# EAGLE library part TAS5548 (library BW-Active)
8-channel I2S/PWM Digital Audio Processor
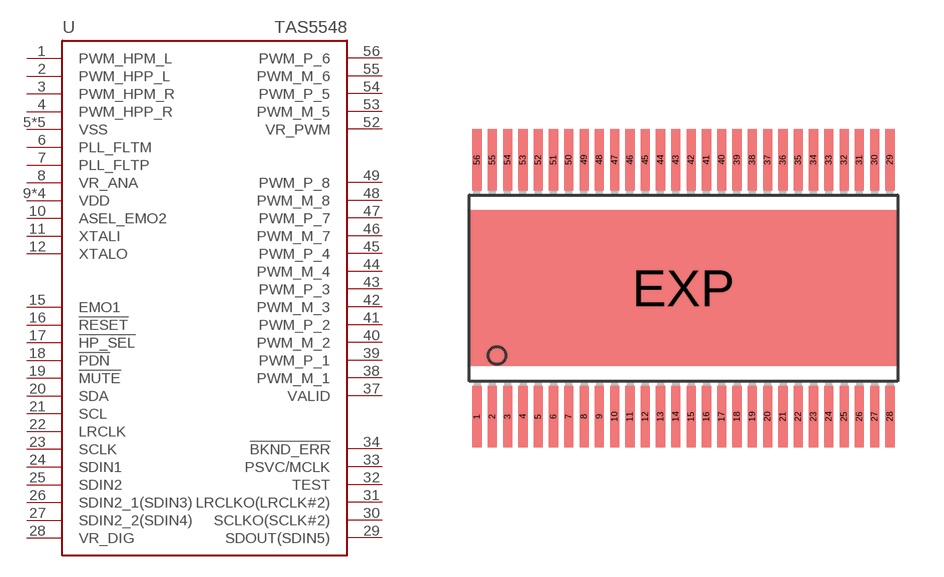
[diagram p55: symbol with the pads of HTSSOP56DCA; footprint HTSSOP56DCA]

Designator prefix U

## TAS5548  [HTSSOP56DCA]
1  PWM_HPM_L
2  PWM_HPP_L
3  PWM_HPM_R
4  PWM_HPP_R
5  VSS
6  PLL_FLTM
7  PLL_FLTP
8  VR_ANA
9  VDD
10  ASEL_EMO2
11  XTALI
12  XTALO
13  VSS
14  VDD
15  EMO1
16  !RESET
17  !HP_SEL
18  !PDN
19  !MUTE
20  SDA
21  SCL
22  LRCLK
23  SCLK
24  SDIN1
25  SDIN2
26  SDIN2_1(SDIN3)
27  SDIN2_2(SDIN4)
28  VR_DIG
29  SDOUT(SDIN5)
30  SCLKO(SCLK#2)
31  LRCLKO(LRCLK#2)
32  TEST
33  PSVC/MCLK
34  !BKND_ERR
35  VDD
36  VSS
37  VALID
38  PWM_M_1
39  PWM_P_1
40  PWM_M_2
41  PWM_P_2
42  PWM_M_3
43  PWM_P_3
44  PWM_M_4
45  PWM_P_4
46  PWM_M_7
47  PWM_P_7
48  PWM_M_8
49  PWM_P_8
50  VDD
51  VSS
52  VR_PWM
53  PWM_M_5
54  PWM_P_5
55  PWM_M_6
56  PWM_P_6
EXP  VSS

## Footprint HTSSOP56DCA (pad centres in mm)
PowerPAD(TM) PLASTIC SMALL-OUTLINE PACKAGE DCA (R-PDSO-G**) Source: http://focus.ti.com/lit/ml/mpds044/mpds044.pdf / slma002.pdf
smd 0.3 x 2: 1 -6.75,-4.2; 2 -6.25,-4.2; 3 -5.75,-4.2; 4 -5.25,-4.2; 5 -4.75,-4.2; 6 -4.25,-4.2; 7 -3.75,-4.2; 8 -3.25,-4.2; 9 -2.75,-4.2; 10 -2.25,-4.2; 11 -1.75,-4.2; 12 -1.25,-4.2; 13 -0.75,-4.2; 14 -0.25,-4.2; 15 0.25,-4.2; 16 0.75,-4.2; 17 1.25,-4.2; 18 1.75,-4.2; 19 2.25,-4.2; 20 2.75,-4.2; 21 3.25,-4.2; 22 3.75,-4.2; 23 4.25,-4.2; 24 4.75,-4.2; 25 5.25,-4.2; 26 5.75,-4.2; 27 6.25,-4.2; 28 6.75,-4.2; 29 6.75,4.2; 30 6.25,4.2; 31 5.75,4.2; 32 5.25,4.2; 33 4.75,4.2; 34 4.25,4.2; 35 3.75,4.2; 36 3.25,4.2; 37 2.75,4.2; 38 2.25,4.2; 39 1.75,4.2; 40 1.25,4.2; 41 0.75,4.2; 42 0.25,4.2; 43 -0.25,4.2; 44 -0.75,4.2; 45 -1.25,4.2; 46 -1.75,4.2; 47 -2.25,4.2; 48 -2.75,4.2; 49 -3.25,4.2; 50 -3.75,4.2; 51 -4.25,4.2; 52 -4.75,4.2; 53 -5.25,4.2; 54 -5.75,4.2; 55 -6.25,4.2; 56 -6.75,4.2
smd 14 x 5.1: EXP 0,0